# Altium schematic symbol library Crystal Osc..SchLib: 2 symbols
Pins are listed as number, name and electrical type; pins without a type are passive.

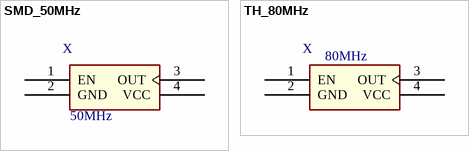
[diagram p0: symbols SMD_50MHz to TH_80MHz]

## SMD_50MHz
designator X  value 50MHz  (hidden comment: *)
Manufacturer Code: DXO57-50-50-T-3.3-TS; Manufacturer: MULTICOMP; Voltage: 3V3; Farnell Code: 1667037; Unit Price: 3,28 €
footprint Crystal Oscillator
pins: 1 EN, 2 GND, 3 OUT, 4 VCC

## TH_80MHz
designator X  value 80MHz  (hidden comment: *)
Manufacturer Code: MXO45HS-3C-80M0000; Manufacturer: CTS-Frequency Controls; Voltage: 5V; Digikey Code: CTX751-ND; Unit Price: 8,51 $
footprint AEL120CS
pins: 1 EN, 2 GND, 3 OUT, 4 VCC